# Altium schematic symbol library PSSI2021SAY.Schlib: 1 symbol
Pins are listed as number, name and electrical type; pins without a type are passive.

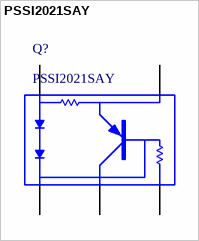
[diagram p0: symbol PSSI2021SAY]

## PSSI2021SAY
designator Q?
pins: 1 NC, 2 IOUT, 3 GND, 4 REXT, 5 VS